# EAGLE library part RJ14 (library ELE4000_BMS)
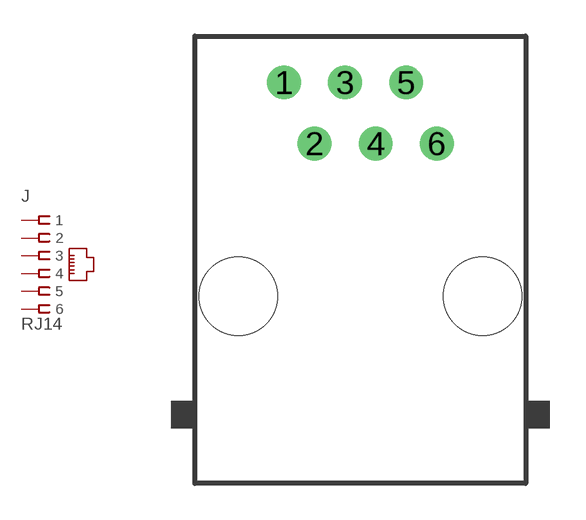
[diagram p8: symbol with the pads of RJ14; footprint RJ14]

Designator prefix J

## RJ14  [RJ14]
1  1  pas
2  2  pas
3  3  pas
4  4  pas
5  5  pas
6  6  pas

## Footprint RJ14 (pad centres in mm)
drill 0.9 pad 1.4 round: 1 -3.175,8.89; 2 -1.905,6.35; 3 -0.635,8.89; 4 0.635,6.35; 5 1.905,8.89; 6 3.175,6.35
hole 3.251 at -5.08,0
hole 3.251 at 5.08,0